# EAGLE library part TI_CC3300 (library mes_communications)
TI CC3300 SimpleLink WiFi Module The TI CC3000 module is a self-contained wireless network processor that simplifies the implementation of Internet connectivity (see Figure 1). TI's SimpleLink™ Wi-Fi solution minimizes the software requirements of the host microcontroller (MCU) and is thus the ideal solution for embedded applications using any low-cost and lowpower MCU. Datasheet (pdf) <http://www.ti.com/lit/ds/swrs126/swrs126.pdf>
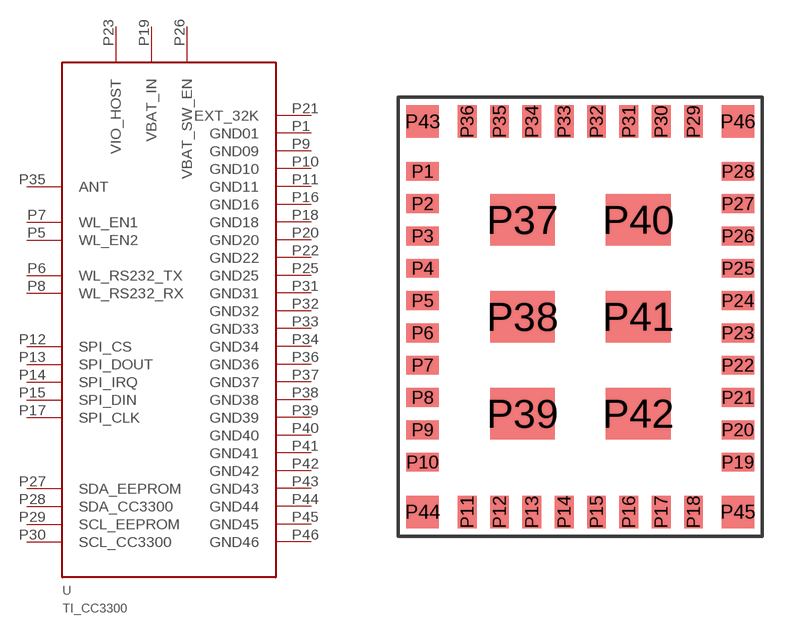
[diagram p0: symbol with the pads of TI-CC3300; footprint TI-CC3300]

Designator prefix -

## TI_CC3300  [TI-CC3300]
P1  GND01
P5  WL_EN2
P6  WL_RS232_TX
P7  WL_EN1
P8  WL_RS232_RX
P9  GND09
P10  GND10
P11  GND11
P12  SPI_CS
P13  SPI_DOUT
P14  SPI_IRQ
P15  SPI_DIN
P16  GND16
P17  SPI_CLK
P18  GND18
P19  VBAT_IN
P20  GND20
P21  EXT_32K
P22  GND22
P23  VIO_HOST
P25  GND25
P26  VBAT_SW_EN
P27  SDA_EEPROM
P28  SDA_CC3300
P29  SCL_EEPROM
P30  SCL_CC3300
P31  GND31
P32  GND32
P33  GND33
P34  GND34
P35  ANT
P36  GND36
P37  GND37
P38  GND38
P39  GND39
P40  GND40
P41  GND41
P42  GND42
P43  GND43
P44  GND44
P45  GND45
P46  GND46

## Footprint TI-CC3300 (pad centres in mm)
smd 1.2 x 0.7: P1 -5.85,5.4; P2 -5.85,4.2; P3 -5.85,3; P4 -5.85,1.8; P5 -5.85,0.6; P6 -5.85,-0.6; P7 -5.85,-1.8; P8 -5.85,-3; P9 -5.85,-4.2; P10 -5.85,-5.4; P19 5.85,-5.4; P20 5.85,-4.2; P21 5.85,-3; P22 5.85,-1.8; P23 5.85,-0.6; P24 5.85,0.6; P25 5.85,1.8; P26 5.85,3; P27 5.85,4.2; P28 5.85,5.4
smd 0.7 x 1.2: P11 -4.2,-7.25; P12 -3,-7.25; P13 -1.8,-7.25; P14 -0.6,-7.25; P15 0.6,-7.25; P16 1.8,-7.25; P17 3,-7.25; P18 4.2,-7.25; P29 4.2,7.25; P30 3,7.25; P31 1.8,7.25; P32 0.6,7.25; P33 -0.6,7.25; P34 -1.8,7.25; P35 -3,7.25; P36 -4.2,7.25
smd 2.4 x 1.9: P37 -2.15,3.6; P38 -2.15,0; P39 -2.15,-3.6; P40 2.15,3.6; P41 2.15,0; P42 2.15,-3.6
smd 1.2 x 1.2: P43 -5.85,7.25; P44 -5.85,-7.25; P45 5.85,-7.25; P46 5.85,7.25